# Altium footprint library AltiumLibraries.PcbLib: 91 footprints (part 1 of 6)
Each footprint in its own frame and in the unit in brackets; x right, y up, seen from the top. Pads: shape width x height; smd on the part's side, far side on the other; paste and mask are expansions set on the pad; w line width, h text height; cw(c..) or ccw(c..) is an arc to the next point about the centre after c.
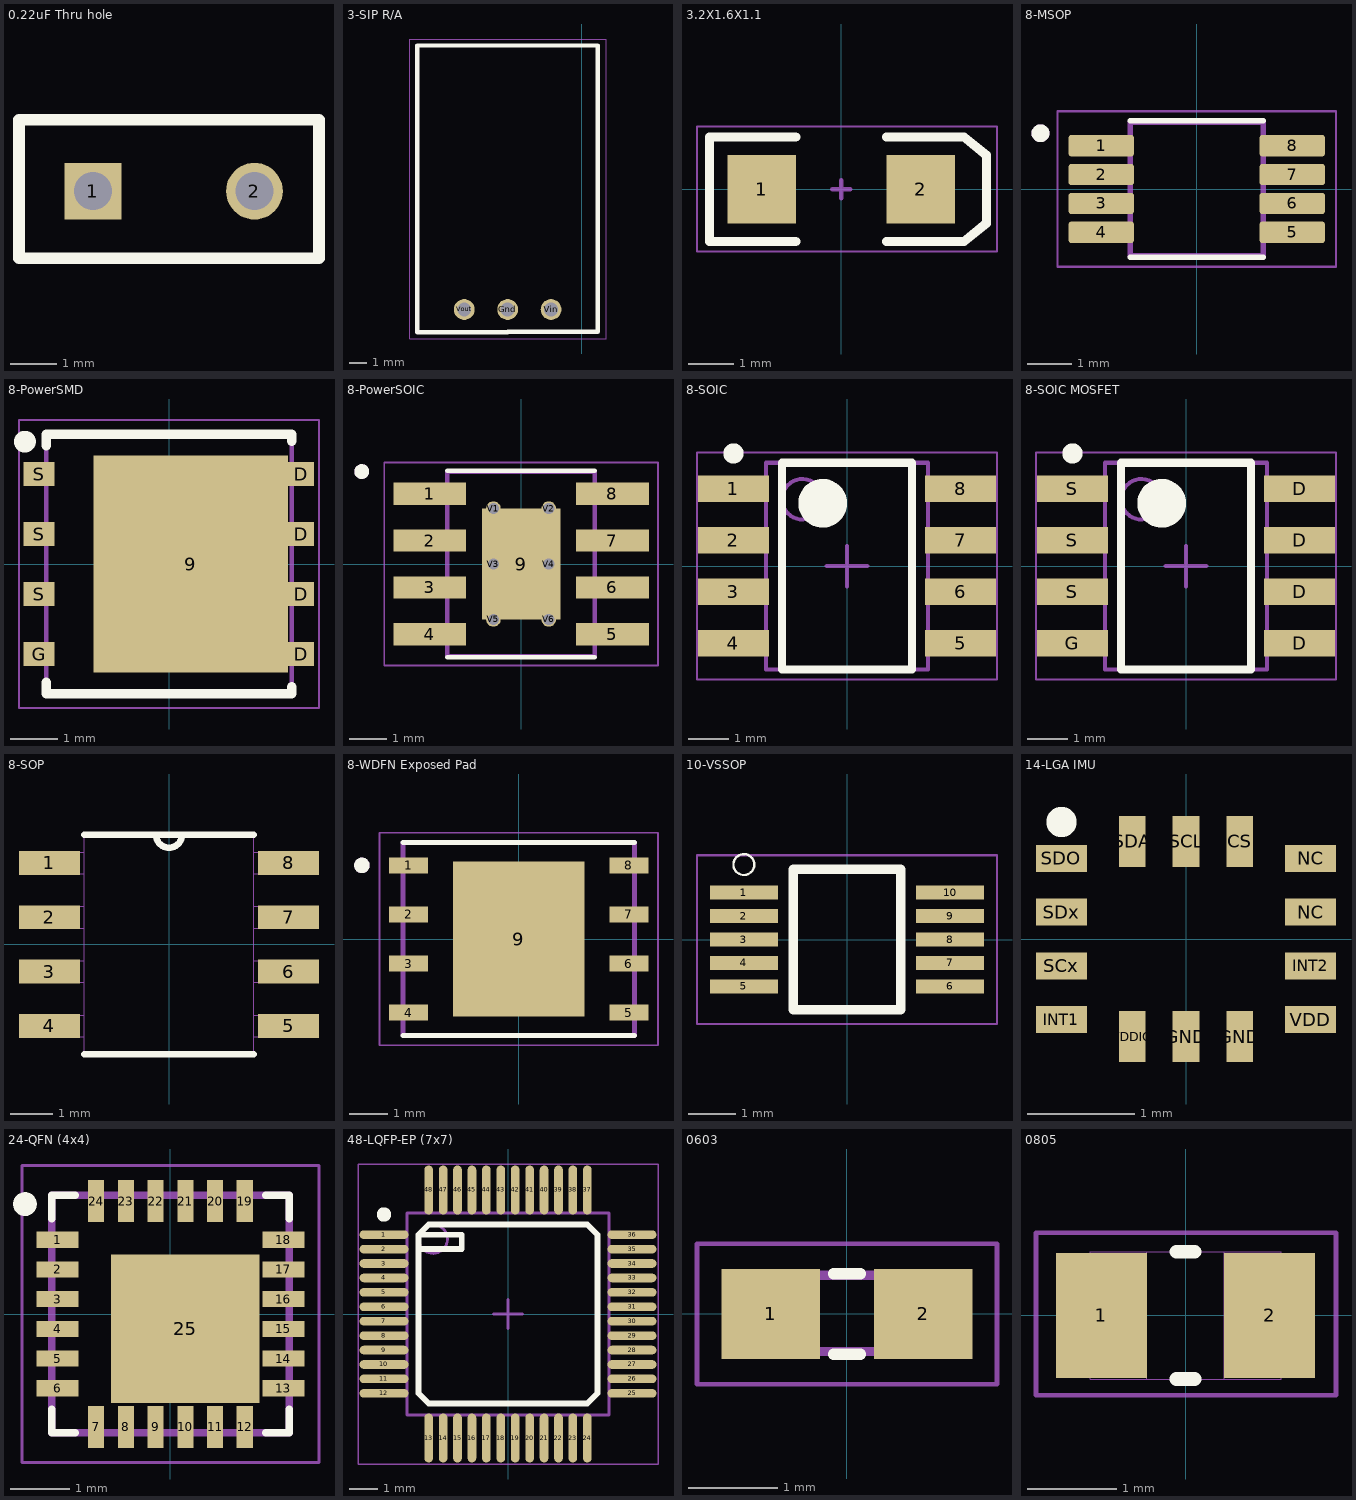
[diagram p0: the footprints below, top view; thin cyan lines are the x and y axes]

## 0.22uF Thru hole [mm]
pads (2):
  rect 1.23x1.23 hole 0.82: 1(-66.898,-218.047)
  round 1.23 hole 0.82: 2(-63.398,-218.047)
Top Overlay:
  lines w0.254: -68.5,-219.5 -68.5,-216.5 -62,-216.5 -62,-219.5 -68.5,-219.5

## 3-SIP R/A [mm]
pads (3):
  round 1.2 hole 0.8: Gnd(-4.273,-16.843) Vin(-1.773,-16.843) Vout(-6.773,-16.843)
Top Overlay:
  lines w0.254: -9.483,-11.193 -9.473,-11.193 ; -4.283,-18.143 -9.483,-18.143 -9.483,-1.643 0.917,-1.643 0.917,-18.133 -4.273,-18.133
Mechanical 15:
  lines w0.051: -9.906,-18.542 -9.906,-1.27 1.397,-1.27 1.397,-18.542 -9.906,-18.542
3D body: height 8.6, standoff 0, extent -9.463,-18.123 0.897,-1.583

## 3.2X1.6X1.1 [mm]
pads (2):
  rect 1.5x1.5 smd: 1(-1.75,0) 2(1.75,0)
Top Overlay:
  lines w0.2: -1,-1.15 -2.9,-1.15 -2.9,1.15 -1,1.15 ; 1,-1.15 2.7,-1.15 3.2,-0.75 3.2,0.75 2.7,1.15 1,1.15
Mechanical 1:
  lines w0.1: -0.2,0 0.2,0 ; 0,-0.2 0,0.2
Mechanical 15:
  lines w0.051: -3.175,-1.37 -3.175,1.38 3.43,1.38 3.43,-1.37 -3.175,-1.37

## 8-MSOP [mm]
pads (8):
  rrect25% 1.47x0.48 smd: 1(-2.15,0.975) 2(-2.15,0.325) 3(-2.15,-0.325) 4(-2.15,-0.975) 5(2.15,-0.975) 6(2.15,-0.325) 7(2.15,0.325) 8(2.15,0.975)
Top Overlay:
  circle w0.2: c-3.52,1.255 r0.1
  lines w0.127: -1.5,-1.535 1.5,-1.535 ; -1.5,1.535 1.5,1.535
Mechanical 13:
  circle w0.2: c-3.52,1.255 r0.1
  lines w0.127: -1.5,-1.5 -1.5,1.5 1.5,1.5 1.5,-1.5 -1.5,-1.5
Mechanical 15:
  lines w0.05: -3.135,-1.75 -3.135,1.75 3.135,1.75 3.135,-1.75 -3.135,-1.75
3D body "RM_8_ADI.step": height 1.09, standoff 0, extent -2.553,-1.6 2.604,1.6

## 8-PowerSMD [mm]
pads (9):
  rect 4.12x4.6 smd: 9(0.46,0)
  rect 0.55x0.5 smd: D(2.795,-1.905) D(2.795,-0.635) D(2.795,0.635) D(2.795,1.905)
  rect 0.65x0.5 smd: G(-2.75,-1.905) S(-2.75,-0.635) S(-2.75,0.635) S(-2.75,1.905)
Top Overlay:
  circle w0.3: c-3.05,2.59 r0.08
  lines w0.2: -2.6,-2.5 -2.6,-2.75 2.6,-2.75 2.6,-2.6 ; -2.6,2.5 -2.6,2.75 2.6,2.75 2.6,2.6
Mechanical 4:
  lines w0.1: -2.6,-2.75 -2.6,2.75 ; -2.6,-2.75 2.6,-2.75 ; -2.6,-2.75 -2.6,2.75 ; -2.6,-2.75 2.6,-2.75 ; -2.6,2.75 2.6,2.75 ; -2.6,2.75 2.6,2.75 ; 2.6,-2.75 2.6,2.75 ; 2.6,-2.75 2.6,2.75
Mechanical 15:
  lines w0.05: -3.175,-3.048 -3.175,3.048 3.175,3.048 3.175,-3.048 -3.175,-3.048

## 8-PowerSOIC [mm]
pads (15):
  rect 1.97x0.6 smd: 1(-2.475,1.905) 2(-2.475,0.635) 3(-2.475,-0.635) 4(-2.475,-1.905) 5(2.475,-1.905) 6(2.475,-0.635) 7(2.475,0.635) 8(2.475,1.905)
  rect 2.13x3 smd: 9(0,0)
  round 0.4 hole 0.3: V1(-0.75,1.5) V2(0.75,1.5) V3(-0.75,0) V4(0.75,0) V5(-0.75,-1.5) V6(0.75,-1.5)
Top Overlay:
  circle w0.2: c-4.32,2.505 r0.1
  lines w0.127: -2,-2.525 2,-2.525 ; -2,2.525 2,2.525
Top Paste:
  region: 0.12,-0.12 0.82,-0.12 0.82,-1.26 0.12,-1.26
  region: -0.82,-0.12 -0.12,-0.12 -0.12,-1.26 -0.82,-1.26
  region: 0.12,1.26 0.82,1.26 0.82,0.12 0.12,0.12
  region: -0.82,1.26 -0.12,1.26 -0.12,0.12 -0.82,0.12
Top Solder:
  region: -1.47,2.445 1.47,2.445 1.47,-2.445 -1.47,-2.445
Mechanical 4:
  circle w0.2: c-4.32,2.505 r0.1
  circle w0.2: c-4.32,2.505 r0.1
  lines w0.127: -2,-2.5 -2,2.5 ; -2,-2.5 2,-2.5 ; -2,-2.5 -2,2.5 ; -2,-2.5 2,-2.5 ; -2,2.5 2,2.5 ; -2,2.5 2,2.5 ; 2,-2.5 2,2.5 ; 2,-2.5 2,2.5
Mechanical 15:
  lines w0.05: -3.71,-2.75 -3.71,2.75 3.71,2.75 3.71,-2.75 -3.71,-2.75
3D body "8-SOIC.step": height 1.68, standoff -0.05, extent -3.099,-2.489 3.099,2.489

## 8-SOIC [mm]
pads (8):
  rect 1.75x0.65 smd: 1(-2.8,1.905) 2(-2.8,0.635) 3(-2.8,-0.635) 4(-2.8,-1.905) 5(2.8,-1.905) 6(2.8,-0.635) 7(2.8,0.635) 8(2.8,1.905)
Top Overlay:
  circle w0.25: c-2.8,2.78 r0.125
  circle w0.6: c-0.6,1.55 r0.3
  lines w0.2: -1.6,-2.55 -1.6,2.55 1.6,2.55 1.6,-2.55 -1.6,-2.55
Mechanical 13:
  circle w0.1: c-1.1,1.65 r0.5
  lines w0.1: -2,-2.55 -2,2.55 2,2.55 2,-2.55 -2,-2.55
Mechanical 15:
  lines w0.05: -3.7,-2.8 -3.7,2.8 3.7,2.8 3.7,-2.8 -3.7,-2.8
  lines w0.1: -0.5,0 0.5,0 ; 0,-0.5 0,0.5
3D body: height 1.7, standoff 0.1, extent -2,-2.55 2,2.55

## 8-SOIC MOSFET [mm]
pads (8):
  rect 1.75x0.65 smd: D(2.8,-1.905) D(2.8,-0.635) D(2.8,0.635) D(2.8,1.905) G(-2.8,-1.905) S(-2.8,-0.635) S(-2.8,0.635) S(-2.8,1.905)
Top Overlay:
  circle w0.25: c-2.8,2.78 r0.125
  circle w0.6: c-0.6,1.55 r0.3
  lines w0.2: -1.6,-2.55 -1.6,2.55 1.6,2.55 1.6,-2.55 -1.6,-2.55
Mechanical 13:
  circle w0.1: c-1.1,1.65 r0.5
  lines w0.1: -2,-2.55 -2,2.55 2,2.55 2,-2.55 -2,-2.55
Mechanical 15:
  lines w0.05: -3.7,-2.8 -3.7,2.8 3.7,2.8 3.7,-2.8 -3.7,-2.8
  lines w0.1: -0.5,0 0.5,0 ; 0,-0.5 0,0.5
3D body: height 1.7, standoff 0.1, extent -2,-2.55 2,2.55

## 8-SOP [mil]
pads (8):
  rect 56x22 smd: 1(-110,75) 2(-110,25) 3(-110,-25) 4(-110,-75) 5(110,-75) 6(110,-25) 7(110,25) 8(110,75)
Top Overlay:
  lines w6: -78,-101 78,-101 ; -78,101 -12,101 ; 78,101 12,101 ; -12,101 ccw(c0,101) 12,101 ; -12,101 12,101
Mechanical 4:
  lines w0: -124,-85 -124,-65 ; -124,-85 -78,-85 ; -124,-85 -124,-65 ; -124,-85 -78,-85 ; -124,-65 -78,-65 ; -124,-65 -78,-65 ; -124,-35 -124,-15 ; -124,-35 -78,-35 ; -124,-35 -124,-15 ; -124,-35 -78,-35 ; -124,-15 -78,-15 ; -124,-15 -78,-15 ; -124,15 -124,35 ; -124,15 -78,15 ; -124,15 -124,35 ; -124,15 -78,15 ; -124,35 -78,35 ; -124,35 -78,35 ; -124,65 -124,85 ; -124,65 -78,65 ; -124,65 -124,85 ; -124,65 -78,65 ; -124,85 -78,85 ; -124,85 -78,85 ; -78,-101 78,-101 ; -78,-101 -78,101 ; -78,-101 78,-101 ; -78,-101 -78,101 ; -78,-85 -78,-65 ; -78,-85 -78,-65 ; -78,-35 -78,-15 ; -78,-35 -78,-15 ; -78,15 -78,35 ; -78,15 -78,35 ; -78,65 -78,85 ; -78,65 -78,85 ; -78,101 -12,101 ; -78,101 -12,101 ; -12,101 ccw(c0,101) 12,101 ; -12,101 ccw(c0,101) 12,101 ; -12,101 12,101 ; -12,101 12,101 ; 12,101 78,101 ; 12,101 78,101 ; 78,-101 78,101 ; 78,-101 78,101 ; 78,-85 78,-65 ; 78,-85 124,-85 ; 78,-85 78,-65 ; 78,-85 124,-85 ; 78,-65 124,-65 ; 78,-65 124,-65 ; 78,-35 78,-15 ; 78,-35 124,-35 ; 78,-35 78,-15 ; 78,-35 124,-35 ; 78,-15 124,-15 ; 78,-15 124,-15 ; 78,15 78,35 ; 78,15 124,15 ; 78,15 78,35 ; 78,15 124,15 ; 78,35 124,35 ; 78,35 124,35 ; 78,65 78,85 ; 78,65 124,65 ; 78,65 78,85 ; 78,65 124,65 ; 78,85 124,85 ; 78,85 124,85 ; 124,-85 124,-65 ; 124,-85 124,-65 ; 124,-35 124,-15 ; 124,-35 124,-15 ; 124,15 124,35 ; 124,15 124,35 ; 124,65 124,85 ; 124,65 124,85

## 8-WDFN Exposed Pad [mm]
pads (9):
  rect 1.01x0.42 smd: 1(-2.85,1.905) 2(-2.85,0.635) 3(-2.85,-0.635) 4(-2.85,-1.905) 5(2.85,-1.905) 6(2.85,-0.635) 7(2.85,0.635) 8(2.85,1.905)
  rect 3.4x4 smd: 9(0,0)
Top Overlay:
  circle w0.2: c-4.06,1.905 r0.1
  lines w0.127: -3,-2.5 3,-2.5 ; -3,2.5 3,2.5
Top Paste:
  region: -1.08,1.26 1.08,1.26 1.08,-1.26 -1.08,-1.26
Mechanical 4:
  circle w0.2: c-4.06,1.905 r0.1
  circle w0.2: c-4.06,1.905 r0.1
  lines w0.127: -3,-2.5 3,-2.5 ; -3,-2.5 -3,2.5 ; -3,-2.5 3,-2.5 ; -3,-2.5 -3,2.5 ; -3,2.5 3,2.5 ; -3,2.5 3,2.5 ; 3,-2.5 3,2.5 ; 3,-2.5 3,2.5
Mechanical 16:
  lines w0.05: -3.605,-2.75 3.605,-2.75 3.605,2.75 -3.605,2.75 -3.605,-2.75

## 10-VSSOP [mm]
pads (10):
  rect 1.45x0.3 smd: 1(-2.2,1) 2(-2.2,0.5) 3(-2.2,0) 4(-2.2,-0.5) 5(-2.2,-1) 6(2.2,-1) 7(2.2,-0.5) 8(2.2,0) 9(2.2,0.5) 10(2.2,1)
Top Overlay:
  circle w0.05: c-2.2,1.6 r0.224
  lines w0.2: -1.15,-1.5 -1.15,1.5 1.15,1.5 1.15,-1.5 -1.15,-1.5
Mechanical 15:
  lines w0.05: -3.2,-1.8 -3.2,1.8 3.2,1.8 3.2,-1.8 -3.2,-1.8

## 14-LGA IMU [mm] "Accelerometer, Gyroscope, Temperature, 6 Axis Sensor I²C, SPI Output"
height 0.86
pads (14):
  rect 0.25x0.475 smd mask+0.05: CS(0.5,0.91) GND(0,-0.91) GND(0.5,-0.91) SCL(0,0.91) SDA(-0.5,0.91) VDDIO(-0.5,-0.91)
  rect 0.475x0.25 smd mask+0.05: INT1(-1.16,-0.75) INT2(1.16,-0.25) NC(1.16,0.25) NC(1.16,0.75) SCx(-1.16,-0.25) SDO(-1.16,0.75) SDx(-1.16,0.25) VDD(1.16,-0.75)
Top Overlay:
  circle w0.254: c-1.16,1.09 r0.014
3D body: height 0.86, standoff 0.3, extent -1.5,-1.25 1.5,1.25

## 24-QFN (4x4) [mm]
pads (25):
  rect 0.71x0.27 smd: 1(-1.9,1.25) 2(-1.9,0.75) 3(-1.9,0.25) 4(-1.9,-0.25) 5(-1.9,-0.75) 6(-1.9,-1.25) 13(1.9,-1.25) 14(1.9,-0.75) 15(1.9,-0.25) 16(1.9,0.25) 17(1.9,0.75) 18(1.9,1.25)
  rect 0.27x0.71 smd: 7(-1.25,-1.9) 8(-0.75,-1.9) 9(-0.25,-1.9) 10(0.25,-1.9) 11(0.75,-1.9) 12(1.25,-1.9) 19(1.25,1.9) 20(0.75,1.9) 21(0.25,1.9) 22(-0.25,1.9) 23(-0.75,1.9) 24(-1.25,1.9)
  rect 2.5x2.5 smd: 25(0.25,-0.25)
Top Overlay:
  circle w0.2: c-2.45,1.85 r0.1
  lines w0.127: -2,-1.6 -2,-2 -1.6,-2 ; -2,1.6 -2,2 -1.6,2 ; 1.6,-2 2,-2 2,-1.6 ; 1.6,2 2,2 2,1.6
Top Paste:
  region: -1.103,1.1 -0.1,1.1 -0.1,0.1 -1.103,0.1
  region: 0.1,1.1 1.1,1.1 1.1,0.1 0.1,0.1
  region: 0.1,-0.1 1.1,-0.1 1.1,-1.102 0.1,-1.102
  region: -1.103,-0.1 -0.1,-0.1 -0.1,-1.103 -1.103,-1.103
Mechanical 4:
  lines w0.127: -2,-2 -2,2 ; -2,-2 2,-2 ; -2,-2 -2,2 ; -2,-2 2,-2 ; -2,2 2,2 ; -2,2 2,2 ; 2,-2 2,2 ; 2,-2 2,2
Mechanical 15:
  lines w0.05: -2.5,-2.5 2.5,-2.5 2.5,2.5 -2.5,2.5 -2.5,-2.5
3D body "LAN8742ACZTR.step": height 1.4, standoff 0, extent -2.045,-2.045 2.045,2.045

## 48-LQFP-EP (7x7) [mm]
pads (48):
  oval 1.7x0.3 smd: 1(-4.3,2.75) 2(-4.3,2.25) 3(-4.3,1.75) 4(-4.3,1.25) 5(-4.3,0.75) 6(-4.3,0.25) 7(-4.3,-0.25) 8(-4.3,-0.75) 9(-4.3,-1.25) 10(-4.3,-1.75) 11(-4.3,-2.25) 12(-4.3,-2.75) 25(4.3,-2.75) 26(4.3,-2.25) 27(4.3,-1.75) 28(4.3,-1.25) 29(4.3,-0.75) 30(4.3,-0.25) 31(4.3,0.25) 32(4.3,0.75) 33(4.3,1.25) 34(4.3,1.75) 35(4.3,2.25) 36(4.3,2.75)
  oval 0.3x1.7 smd: 13(-2.75,-4.3) 14(-2.25,-4.3) 15(-1.75,-4.3) 16(-1.25,-4.3) 17(-0.75,-4.3) 18(-0.25,-4.3) 19(0.25,-4.3) 20(0.75,-4.3) 21(1.25,-4.3) 22(1.75,-4.3) 23(2.25,-4.3) 24(2.75,-4.3) 37(2.75,4.3) 38(2.25,4.3) 39(1.75,4.3) 40(1.25,4.3) 41(0.75,4.3) 42(0.25,4.3) 43(-0.25,4.3) 44(-0.75,4.3) 45(-1.25,4.3) 46(-1.75,4.3) 47(-2.25,4.3) 48(-2.75,4.3)
Top Overlay:
  circle w0.25: c-4.3,3.45 r0.125
  lines w0.2: -3.1,2.25 -1.6,2.25 -1.6,2.75 -3.1,2.75 ; -3.1,2.75 -2.75,3.1 2.75,3.1 3.1,2.75 3.1,-2.75 2.75,-3.1 -2.75,-3.1 -3.1,-2.75 -3.1,2.75
Mechanical 13:
  circle w0.1: c-2.6,2.6 r0.5
  lines w0.1: -3.5,-3.5 3.5,-3.5 3.5,3.5 -3.5,3.5 -3.5,-3.5
Mechanical 15:
  lines w0.05: -5.2,-5.2 5.2,-5.2 5.2,5.2 -5.2,5.2 -5.2,-5.2
  lines w0.1: -0.5,0 0.5,0 ; 0,-0.5 0,0.5
3D body: height 1.6, standoff 0.1, extent -3.5,-3.5 3.5,3.5

## 0603 [mm]
pads (2):
  rect 1.1x1 smd: 1(-0.85,0) 2(0.85,0)
Top Overlay:
  lines w0.127: -0.15,-0.45 0.15,-0.45 ; -0.15,0.45 0.15,0.45
Mechanical 4:
  region: 0.331,0.48 0.83,0.48 0.83,-0.471 0.331,-0.471
  region: -0.839,0.48 -0.338,0.48 -0.338,-0.47 -0.839,-0.47
  region: 0.331,0.48 0.83,0.48 0.83,-0.471 0.331,-0.471
  region: -0.839,0.48 -0.338,0.48 -0.338,-0.47 -0.839,-0.47
  lines w0.102: -0.356,-0.419 0.356,-0.419 -0.356,-0.419 ; -0.356,0.432 0.356,0.432 -0.356,0.432
Mechanical 15:
  lines w0.051: -1.673,-0.783 -1.673,0.783 1.673,0.783 1.673,-0.783 -1.673,-0.783

## 0805 [mil]
pads (2):
  rect 40x55 smd: 1(-37,0) 2(37,0)
Top Overlay:
  lines w6: -4,-28 4,-28 ; -4,28 4,28
Mechanical 1:
  lines w0: -17,-28 17,-28 ; -17,-28 -42,-28 -42,28 -17,28 ; -17,-28 -17,28 ; -17,28 17,28 ; 17,-28 42,-28 42,28 17,28 ; 17,-28 17,28
Mechanical 15:
  lines w2.01: -65.75,-35.04 66.14,-35.04 66.14,36.22 -65.75,36.22 -65.75,-35.04